# Altium footprint library 保险丝.PcbLib: 25 footprints (part 2 of 2)
Each footprint in its own frame and in the unit in brackets; x right, y up, seen from the top. Pads: shape width x height; smd on the part's side, far side on the other; paste and mask are expansions set on the pad; w line width, h text height; cw(c..) or ccw(c..) is an arc to the next point about the centre after c.
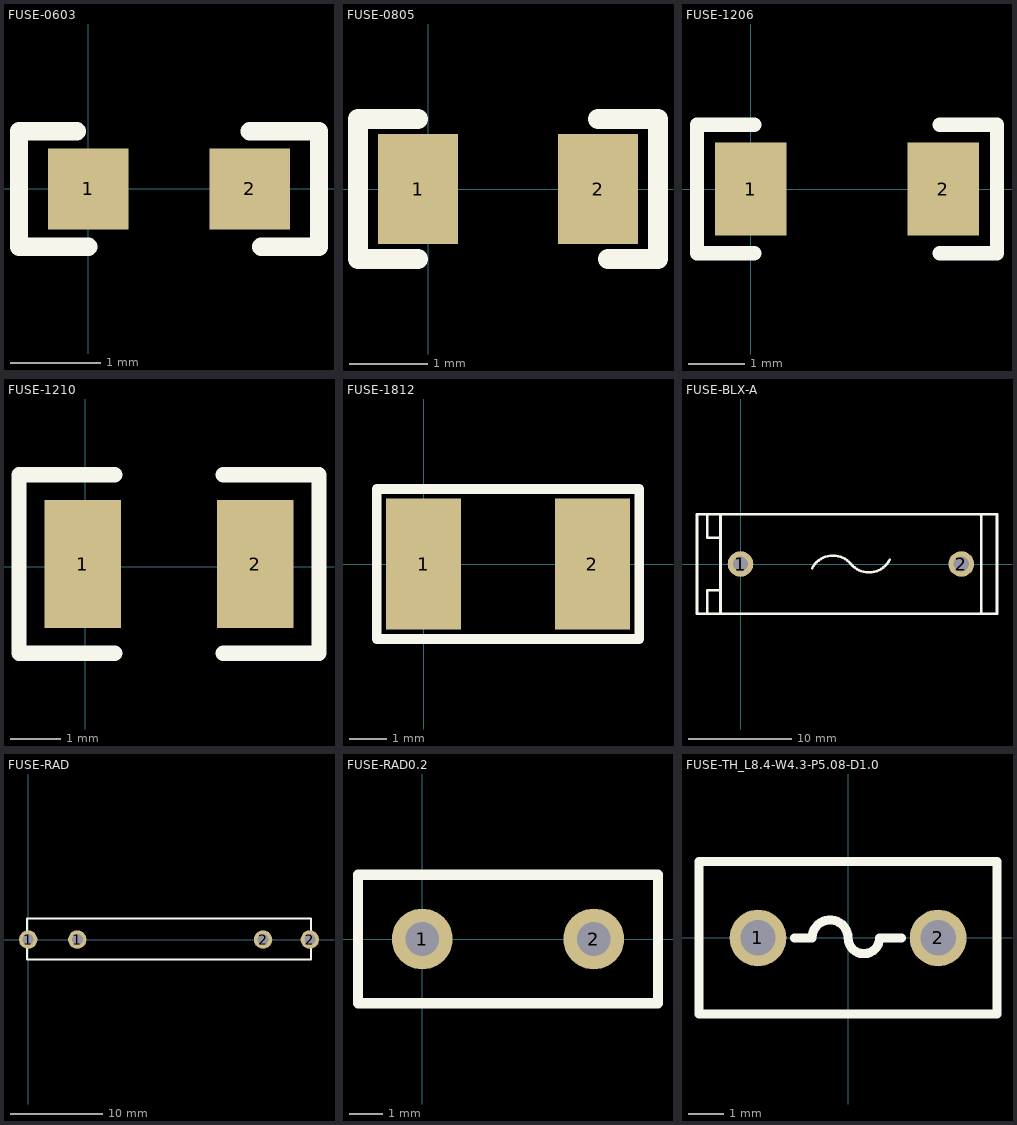
[diagram p1: the footprints below, top view; thin cyan lines are the x and y axes]

## FUSE-0603 [mil]
pads (2):
  rect 35x35 smd: 1(0,0) 2(70,0)
Top Overlay:
  lines w8: -5,25 -30,25 -30,-25 0,-25 ; 70,25 100,25 100,-25 75,-25
3D body "11.STEP": height 20.47, standoff 0, extent 7.01,-16.14 70,16.14

## FUSE-0805 [mil]
pads (2):
  rect 40x55 smd: 1(-5,0) 2(85,0)
Top Overlay:
  lines w10: -5,-35 -35,-35 -35,35 -5,35 ; 85,35 115,35 115,-35 90,-35
3D body "10.STEP": height 20.47, standoff 0, extent 0,-24.02 78.74,24.02

## FUSE-1206 [mil]
pads (2):
  rect 50x65 smd: 1(0,0) 2(135,0)
Top Overlay:
  lines w10: 2.5,-45 -37.5,-45 -37.5,45 2.5,45 ; 132.5,-45 172.5,-45 172.5,45 132.5,45
3D body "9.STEP": height 34.25, standoff 0, extent 2.01,-33.78 127.99,30

## FUSE-1210 [mil]
pads (2):
  rect 60x100 smd: 1(-2,2) 2(133,2)
Top Overlay:
  lines w12: 23,-68 -52,-68 -52,72 23,72 ; 108,-68 183,-68 183,72 108,72
3D body "Fuse1210.STEP": height 26.57, standoff 0, extent 7.72,-48.69 134.29,52.69

## FUSE-1812 [mm]
pads (2):
  rect 2x3.5 smd: 1(0,0) 2(4.5,0)
Top Overlay:
  lines w0.254: -1.25,-2 5.75,-2 5.75,2 -1.25,2 -1.25,-2
3D body "User Library-fuse1812.STEP": height 1.32, standoff 0, extent -0.16,-1.61 4.66,1.61

## FUSE-BLX-A [mm]
pads (2):
  round 2.5 hole 1.5: 1(0,0) 2(21.5,0)
Top Overlay:
  lines w0.254: -1.95,-4.826 -1.95,-2.54 ; -1.95,4.826 -1.95,2.54 ; 6.968,-0.419 cw(c8.999,-1.469) 10.75,0 ccw(c12.501,1.469) 14.532,0.419 ; 23.196,-4.826 24.974,-4.826 24.974,4.826 23.45,4.826 ; -3.22,-4.826 -3.22,-2.54 -1.95,-2.54 ; -3.22,-4.826 23.45,-4.826 23.45,4.826 ; -3.22,-4.826 -4.236,-4.826 -4.236,4.826 -3.22,4.826 ; -3.22,4.826 -3.22,2.54 -1.95,2.54 ; -3.22,4.826 23.45,4.826 ; -1.95,-2.54 -1.95,2.54
3D body "3.STEP": height 13.9, standoff -3.6, extent -4.261,-4.801 25.089,4.699

## FUSE-RAD [mm]
pads (4):
  round 2 hole 1.2: 1(0,0) 1(5.334,0) 2(25.527,0) 2(30.607,0)
Top Overlay:
  lines w0.254: -0.127,-2.159 30.734,-2.159 30.734,2.286 -0.127,2.286 -0.127,-2.159
3D body "SW3DPS-FUSE-DEFAULT.STEP": height 8.84, standoff -4.01, extent -0.127,-2.825 30.753,3.079

## FUSE-RAD0.2 [mm]
pads (2):
  round 1.8 hole 1: 1(0,0) 2(5.08,0)
Top Overlay:
  lines w0.305: -1.905,-1.905 -1.905,1.905 6.985,1.905 6.985,-1.905 -1.905,-1.905
3D body "FUSE-FRU110-30F.STEP": height 11, standoff -7.22, extent -1.16,-0.85 6.24,0.85

## FUSE-TH_L8.4-W4.3-P5.08-D1.0 [mm]
pads (2):
  round 1.6 hole 1: 1(-2.54,0) 2(2.54,0)
Top Overlay:
  lines w0.254: -1.509,0 -1.016,0 cw(c-0.508,0) 0,0 ccw(c0.445,0) 0.889,0 1.509,0 ; -4.2,-2.15 -4.2,2.15 4.2,2.15 4.2,-2.15 -4.2,-2.15
Mechanical 15:
  region: 2.84,0 2.84,0.06 2.794,0.17 2.71,0.254 2.6,0.3 2.48,0.3 2.37,0.254 2.286,0.17 2.24,0.06 2.24,0 2.24,-0.06 2.286,-0.17 2.37,-0.254 2.48,-0.3 2.6,-0.3 2.71,-0.254 2.794,-0.17 2.84,-0.06 2.84,0
  region: -2.24,0 -2.24,0.06 -2.286,0.17 -2.37,0.254 -2.48,0.3 -2.6,0.3 -2.71,0.254 -2.794,0.17 -2.84,0.06 -2.84,0 -2.84,-0.06 -2.794,-0.17 -2.71,-0.254 -2.6,-0.3 -2.48,-0.3 -2.37,-0.254 -2.286,-0.17 -2.24,-0.06 -2.24,0
  region: -4.14,-2.15 -4.141,-2.126 -4.176,-2.092 -4.224,-2.092 -4.259,-2.126 -4.26,-2.15 -4.259,-2.174 -4.224,-2.208 -4.176,-2.208 -4.141,-2.174 -4.14,-2.15
  lines w0.051: -4.2,-2.15 4.2,-2.15 4.2,2.15 -4.2,2.15 -4.2,-2.15
3D body "U4.step": height 8.5, standoff -3.5, extent -4.25,-2.001 4.25,2